# Altium schematic symbol library FDD8453LZ.SCHLIB: 1 symbol
Pins are listed as number, name and electrical type; pins without a type are passive.

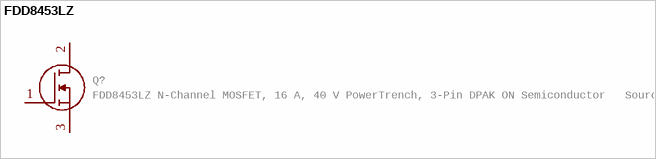
[diagram p0: symbol FDD8453LZ]

## FDD8453LZ
designator Q?, comment FDD8453LZ N-Channel MOSFET, 16 A, 40 V PowerTrench, 3-Pin DPAK ON Semiconductor   Source:  Datasheet
GateName_1: G$1; SymbolName_1: FDD8453LZ; LibraryName: FDD8453LZ; DeviceSetName: FDD8453LZ; Package: FDD8453LZ; Manufacturer_Name: ON Semiconductor; Manufacturer_Part_Number: FDD8453LZ; Mouser_Part_Number: 512-FDD8453LZ; Mouser_Price-Stock: https://www.mouser.com/Search/Refine.aspx?Keyword=512-FDD8453LZ; Description: FDD8453LZ N-Channel MOSFET, 16 A, 40 V PowerTrench, 3-Pin DPAK ON Semiconductor; Height: 2.39mm
footprint FDD8453LZ
pins: 1 G (io), 2 D (io), 3 S (io)